# Altium footprint library Footprints.PcbLib: 39 footprints (part 1 of 3)
Each footprint in its own frame and in the unit in brackets; x right, y up, seen from the top. Pads: shape width x height; smd on the part's side, far side on the other; paste and mask are expansions set on the pad; w line width, h text height; cw(c..) or ccw(c..) is an arc to the next point about the centre after c.
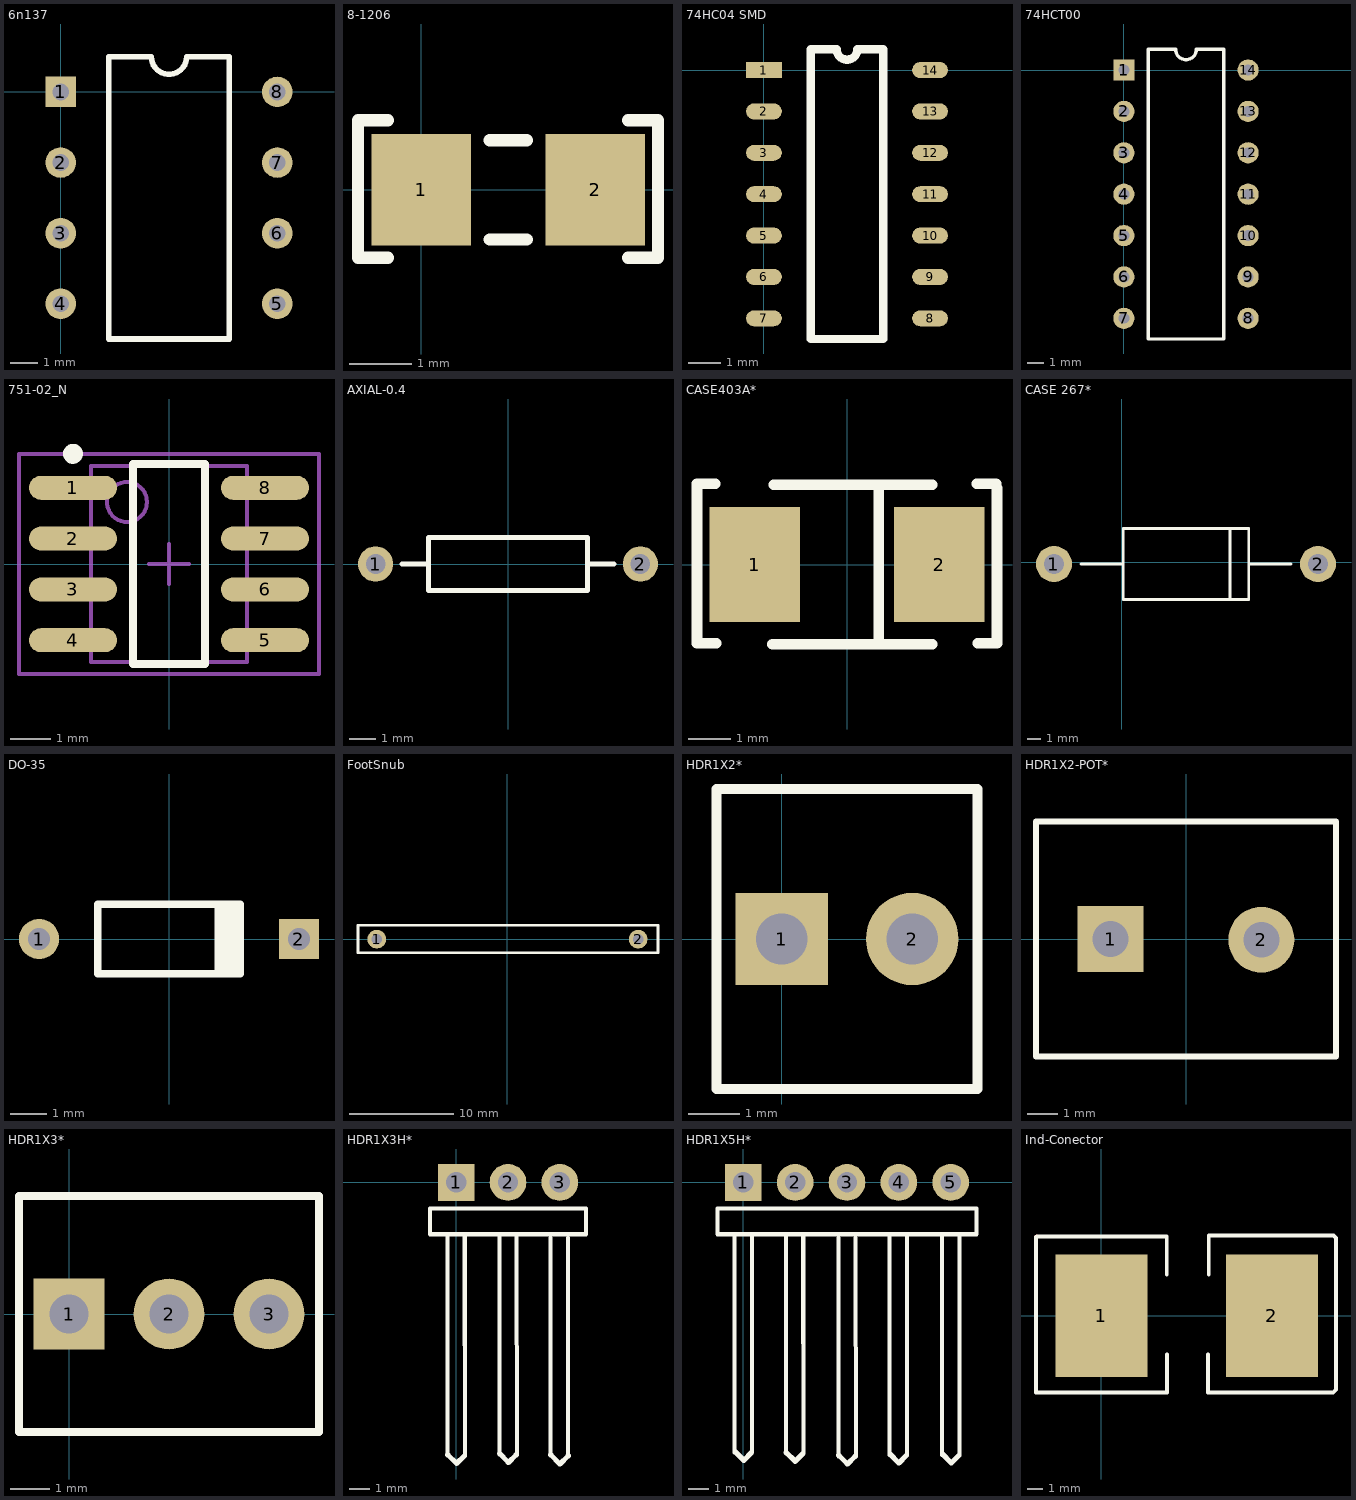
[diagram p0: the footprints below, top view; thin cyan lines are the x and y axes]

## 6n137 [mm]
pads (8):
  rect 1.1x1.1 hole 0.6: 1(0,0)
  round 1.1 hole 0.6: 2(0,-2.54) 3(0,-5.08) 4(0,-7.62) 5(7.8,-7.62) 6(7.8,-5.08) 7(7.8,-2.54) 8(7.8,0)
Top Overlay:
  lines w0.2: 1.725,-8.89 6.075,-8.89 6.075,1.27 4.535,1.27 cw(c3.9,1.27) 3.265,1.27 1.725,1.27 1.725,-8.89

## 8-1206 [mm] "Chip Resistor; Body 3.1 x 1.6 mm (LxW typ)"
height 0.7
pads (2):
  rect 1.6x1.8 smd: 1(0,0) 2(2.8,0)
Top Overlay:
  lines w0.2: -1.016,1.118 -1.016,-1.092 -0.533,-1.092 ; -0.965,1.118 -0.533,1.118 ; 1.1,-0.8 1.7,-0.8 ; 1.1,0.8 1.7,0.8 ; 3.327,-1.092 3.759,-1.092 ; 3.327,1.118 3.759,1.118 ; 3.81,-1.092 3.81,1.118

## 74HC04 SMD [mm]
pads (14):
  rect 1.1x0.49 smd: 1(0,0)
  oval 1.1x0.49 smd: 2(0,-1.27) 3(0,-2.54) 4(0,-3.81) 5(0,-5.08) 6(0,-6.35) 7(0,-7.62) 8(5.1,-7.62) 9(5.1,-6.35) 10(5.1,-5.08) 11(5.1,-3.81) 12(5.1,-2.54) 13(5.1,-1.27) 14(5.1,0)
Top Overlay:
  lines w0.254: 1.439,-8.255 1.439,0.635 2.232,0.635 ccw(c2.55,0.635) 2.867,0.635 3.661,0.635 3.661,-8.255 1.439,-8.255

## 74HCT00 [mm]
pads (14):
  rect 1.3x1.3 hole 0.66: 1(0,0)
  round 1.3 hole 0.66: 2(0,-2.54) 3(0,-5.08) 4(0,-7.62) 5(0,-10.16) 6(0,-12.7) 7(0,-15.24) 8(7.62,-15.24) 9(7.62,-12.7) 10(7.62,-10.16) 11(7.62,-7.62) 12(7.62,-5.08) 13(7.62,-2.54) 14(7.62,0)
Top Overlay:
  lines w0.2: 1.485,-16.51 6.135,-16.51 6.135,1.27 4.445,1.27 cw(c3.81,1.27) 3.175,1.27 1.485,1.27 1.485,-16.51

## 751-02_N [mm] "SOIC, 8-Leads, Body 4.9x3.9mm, Pitch 1.27mm, IPC Medium Density"
height 1.75
pads (8):
  oval 2.2x0.6 smd: 1(-2.4,1.905) 2(-2.4,0.635) 3(-2.4,-0.635) 4(-2.4,-1.905) 5(2.4,-1.905) 6(2.4,-0.635) 7(2.4,0.635) 8(2.4,1.905)
Top Overlay:
  circle w0.25: c-2.4,2.755 r0.125
  lines w0.2: -0.9,-2.5 -0.9,2.5 0.9,2.5 0.9,-2.5 -0.9,-2.5
Mechanical 13:
  circle w0.1: c-1.05,1.55 r0.5
  lines w0.1: -1.95,-2.45 -1.95,2.45 1.95,2.45 1.95,-2.45 -1.95,-2.45
Mechanical 15:
  lines w0.1: -0.5,0 0.5,0 ; 0,-0.5 0,0.5 ; -3.75,-2.75 -3.75,2.75 3.75,2.75 3.75,-2.75 -3.75,-2.75
3D body: height 1.75, standoff 0, extent -1.95,-2.45 1.95,2.45

## AXIAL-0.4 [mm] "Axial Device, Thru-Hole; 2 Leads; 0.4 in Pin Spacing"
height 2.032
pads (2):
  round 1.35 hole 0.75: 1(-5.08,0) 2(5.08,0)
Top Overlay:
  lines w0.2: -4.064,0 -3.048,0 ; 3.048,0 4.064,0 ; -3.048,-1.016 3.048,-1.016 3.048,1.016 -3.048,1.016 -3.048,-1.016

## CASE403A* [mm] "MBRS1100"
pads (2):
  rect 2.16x2.75 smd: 1(-2.2,0) 2(2.2,0)
Top Overlay:
  lines w0.254: -3.581,1.905 -3.581,1.473 -3.581,-1.88 -3.124,-1.88 ; -3.581,1.93 -3.15,1.93 ; -1.778,-1.905 2.032,-1.905 ; -1.753,1.905 2.032,1.905 ; 0.762,-1.803 0.762,1.88 ; 3.099,1.93 3.556,1.93 ; 3.124,-1.88 3.581,-1.88 3.581,1.829

## CASE 267* [mm] "Axial Diode MUR460, Thru-Hole; 2 Leads"
height 2.54
pads (2):
  round 2.7 hole 1.5: 1(-5.08,-0.127) 2(14.732,-0.127)
Top Overlay:
  lines w0.2: -3.048,-0.127 0.127,-0.127 ; 8.128,-2.794 8.128,2.54 ; 9.525,-0.127 12.7,-0.127 ; 0.127,-2.794 0.127,2.54 9.525,2.54 9.525,-2.794 0.127,-2.794

## DO-35 [mm] "Diode, Axial 1n4148; Body 3.8 x 1.9 mm (LxDia. max), Lead Dia. 0.53 mm (max)"
height 1.9
pads (2):
  round 1.1 hole 0.6: 1(-3.55,0)
  rect 1.1x1.1 hole 0.6: 2(3.55,0)
Top Overlay:
  rectangle: 1.25,-0.95 2.05,0.95
  lines w0.2: 1.95,-0.95 -1.95,-0.95 -1.95,0.95 1.95,0.95

## FootSnub [mm] "Axial Device, Thru-Hole; 2 Leads; 0.4 in Pin Spacing"
height 2.032
pads (2):
  round 1.8 hole 1: 1(-12.548,0) 2(12.548,0)
Top Overlay:
  lines w0.254: -14.351,-1.321 14.453,-1.321 14.453,1.346 -14.351,1.346 -14.351,-1.321

## HDR1X2* [mm] "Connector; Header; 2 Position"
pads (2):
  rect 1.8x1.8 hole 1: 1(0,0)
  round 1.8 hole 1: 2(2.54,0)
Top Overlay:
  lines w0.2: -1.27,-2.921 -1.27,2.921 3.81,2.921 3.81,-2.921 -1.27,-2.921

## HDR1X2-POT* [mm] "Connector; Header; 2 Position"
pads (2):
  rect 2.2x2.2 hole 1.2: 1(-2.515,0)
  round 2.2 hole 1.2: 2(2.515,-0.025)
Top Overlay:
  lines w0.2: -5.004,-3.912 5.004,-3.912 5.004,3.912 -5.004,3.912 -5.004,-3.912

## HDR1X3* [mm] "Connector; Header; 3 Position"
pads (3):
  rect 1.8x1.8 hole 1: 1(0,0)
  round 1.8 hole 1: 2(2.54,0) 3(5.08,0)
Top Overlay:
  lines w0.2: -1.27,-2.997 6.35,-2.997 6.35,2.997 -1.27,2.997 -1.27,-2.997

## HDR1X3H* [mm] "Connector; Header; 3 Position; Right Angle"
pads (3):
  rect 1.8x1.8 hole 1: 1(0,0)
  round 1.8 hole 1: 2(2.54,0) 3(5.08,0)
Top Overlay:
  lines w0.2: -0.423,-13.386 -0.423,-2.692 ; 0.423,-2.692 0.432,-13.36 ; 2.117,-13.335 2.117,-2.642 ; 2.963,-2.642 2.972,-13.31 ; 4.631,-13.343 4.631,-2.718 ; 5.478,-2.718 5.486,-13.386 ; -1.27,-2.54 -1.27,-1.27 6.35,-1.27 6.35,-2.54 -1.27,-2.54
  lines w0.254: -0.406,-13.335 0.013,-13.754 ; 0.025,-13.767 0.406,-13.386 ; 2.134,-13.284 2.553,-13.703 ; 2.565,-13.716 2.946,-13.335 ; 4.631,-13.343 5.067,-13.779 ; 5.08,-13.792 5.486,-13.386

## HDR1X5H* [mm] "Connector; Header; 5 Position; Right Angle"
pads (5):
  rect 1.8x1.8 hole 1: 1(0,0)
  round 1.8 hole 1: 2(2.54,0) 3(5.08,0) 4(7.62,0) 5(10.16,0)
Top Layer:
  lines w0.254: 0.013,-13.602 0.025,-13.602
Top Overlay:
  lines w0.2: -0.423,-13.233 -0.423,-2.54 ; 0.423,-2.54 0.432,-13.208 ; 2.091,-13.284 2.091,-2.591 ; 2.938,-2.591 2.946,-13.259 ; 4.657,-13.411 4.657,-2.718 ; 5.503,-2.718 5.512,-13.386 ; 7.171,-13.36 7.171,-2.667 ; 8.018,-2.667 8.026,-13.335 ; 9.737,-13.36 9.737,-2.667 ; 10.583,-2.667 10.592,-13.335 ; -1.27,-2.54 11.43,-2.54 11.43,-1.27 -1.27,-1.27 -1.27,-2.54
  lines w0.254: -0.406,-13.183 0.013,-13.602 ; 0.025,-13.614 0.406,-13.233 ; 2.108,-13.233 2.527,-13.652 ; 2.54,-13.665 2.921,-13.284 ; 4.674,-13.36 5.093,-13.779 ; 5.105,-13.792 5.486,-13.411 ; 7.188,-13.31 7.607,-13.729 ; 7.62,-13.741 8.001,-13.36 ; 9.754,-13.31 10.173,-13.729 ; 10.185,-13.741 10.566,-13.36

## Ind-Conector [mm]
pads (2):
  rect 6x8 smd: 1(0,0) 2(11.125,0)
Top Layer:
  lines w0.254: -4.267,5.131 -4.216,5.182
Top Overlay:
  lines w0.254: -4.267,5.131 -4.267,-5.004 4.293,-5.004 4.293,-2.515 ; -4.216,5.182 4.267,5.182 4.267,2.692 ; 6.96,-2.515 6.96,-5.004 15.138,-5.004 15.316,-4.826 15.316,5.08 15.164,5.232 7.01,5.232 7.01,2.692